# EAGLE library part SN74LVC244 (library custom)
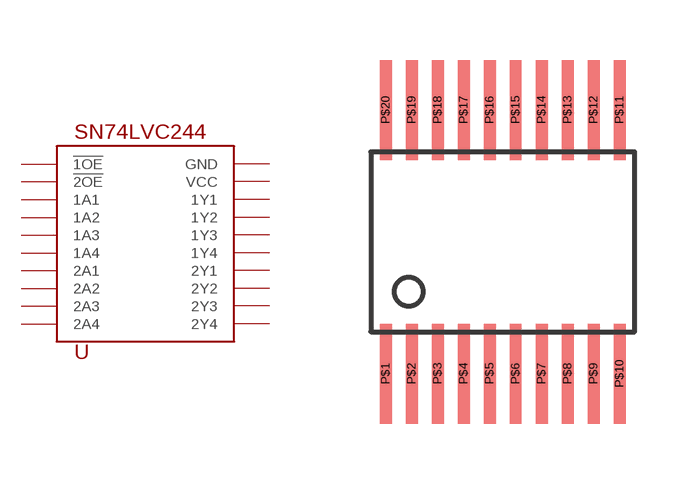
[diagram p6: symbol with the pads of TSSOP-20-0.65MM; footprint TSSOP-20-0.65MM]

Designator prefix -

## SN74LVC244  [TSSOP-20-0.65MM]
P$1  !1OE
P$2  1A1
P$3  2Y4
P$4  1A2
P$5  2Y3
P$6  1A3
P$7  2Y2
P$8  1A4
P$9  2Y1
P$10  GND
P$11  2A1
P$12  1Y4
P$13  2A2
P$14  1Y3
P$15  2A3
P$16  1Y2
P$17  2A4
P$18  1Y1
P$19  !2OE
P$20  VCC

## Footprint TSSOP-20-0.65MM (pad centres in mm)
smd 0.3 x 2.5: P$1 -2.925,-3.3; P$2 -2.275,-3.3; P$3 -1.625,-3.3; P$4 -0.975,-3.3; P$5 -0.325,-3.3; P$6 0.325,-3.3; P$7 0.975,-3.3; P$8 1.625,-3.3; P$9 2.275,-3.3; P$10 2.925,-3.3; P$11 2.925,3.3; P$12 2.275,3.3; P$13 1.625,3.3; P$14 0.975,3.3; P$15 0.325,3.3; P$16 -0.325,3.3; P$17 -0.975,3.3; P$18 -1.625,3.3; P$19 -2.275,3.3; P$20 -2.925,3.3